# Altium footprint library silkscreens.PCBLIB: 5 footprints
Each footprint in its own frame and in the unit in brackets; x right, y up, seen from the top. Pads: shape width x height; smd on the part's side, far side on the other; paste and mask are expansions set on the pad; w line width, h text height; cw(c..) or ccw(c..) is an arc to the next point about the centre after c.
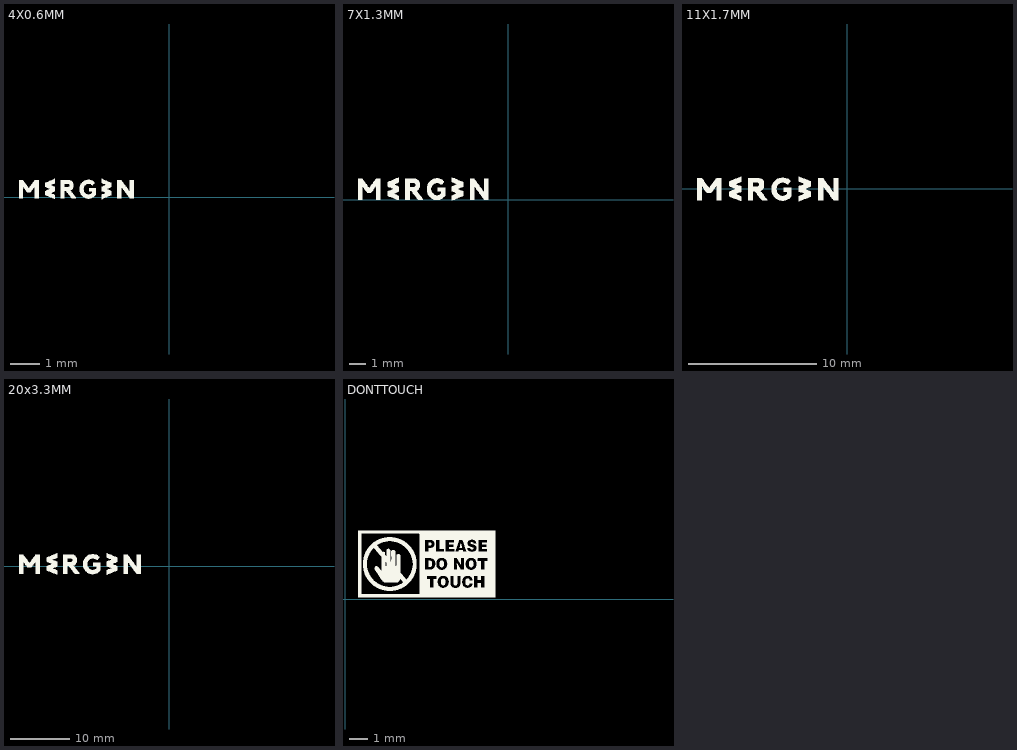
[diagram p0: the footprints below, top view; thin cyan lines are the x and y axes]

## 4X0.6MM [mm]
Top Overlay:
  drawing of 481 lines, arcs and shapes, not listed
Bottom Overlay:
  drawing of 481 lines, arcs and shapes, not listed

## 7X1.3MM [mm]
Top Overlay:
  drawing of 481 lines, arcs and shapes, not listed
Bottom Overlay:
  drawing of 481 lines, arcs and shapes, not listed

## 11X1.7MM [mm]
Top Overlay:
  drawing of 481 lines, arcs and shapes, not listed
Bottom Overlay:
  drawing of 481 lines, arcs and shapes, not listed

## 20x3.3MM [mm]
Top Overlay:
  drawing of 962 lines, arcs and shapes, not listed
Bottom Overlay:
  drawing of 481 lines, arcs and shapes, not listed

## DONTTOUCH [mm]
Top Overlay:
  drawing of 3683 lines, arcs and shapes, not listed
Bottom Overlay:
  drawing of 3683 lines, arcs and shapes, not listed